# Altium footprint library DIP762W50P254L460H450Q4.PcbLib: 1 footprints
Each footprint in its own frame and in the unit in brackets; x right, y up, seen from the top. Pads: shape width x height; smd on the part's side, far side on the other; paste and mask are expansions set on the pad; w line width, h text height; cw(c..) or ccw(c..) is an arc to the next point about the centre after c.
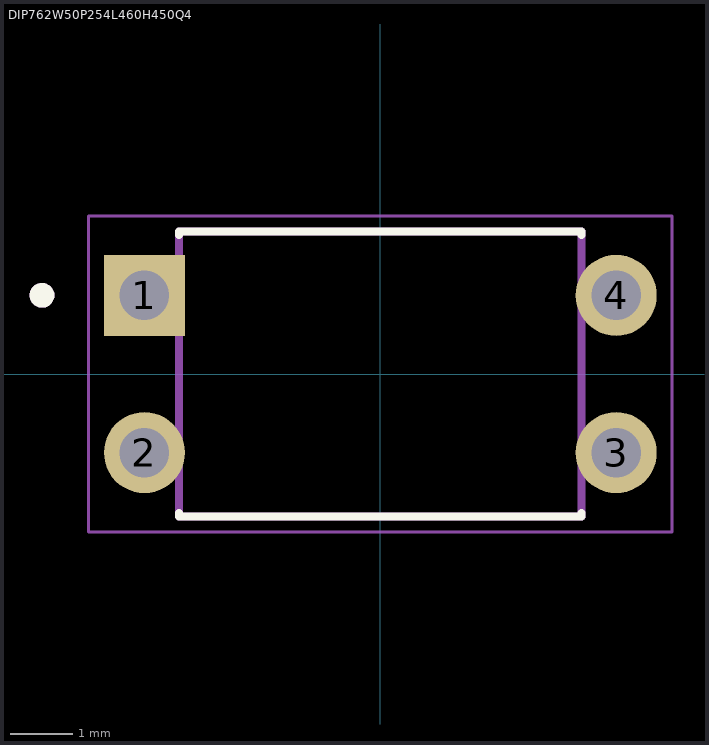
[diagram p0: the footprint, top view; thin cyan lines are the x and y axes]

## DIP762W50P254L460H450Q4 [mm]
height 4.5
pads (4):
  rect 1.308x1.308 / inner round 1.308 / far side rect 1.308x1.308 hole 0.8: 1(-3.81,1.27)
  round 1.308 hole 0.8: 2(-3.81,-1.27) 3(3.81,-1.27) 4(3.81,1.27)
Top Overlay:
  circle w0.2: c-5.464,1.27 r0.1
  lines w0.127: -3.25,-2.244 -3.25,-2.3 3.25,-2.3 3.25,-2.244 ; -3.25,2.244 -3.25,2.3 3.25,2.3 3.25,2.244
Mechanical 13:
  circle w0.2: c-5.464,1.27 r0.1
  lines w0.127: -3.25,-2.3 3.25,-2.3 3.25,2.3 -3.25,2.3 -3.25,-2.3
Mechanical 15:
  lines w0.05: -4.714,-2.55 -4.714,2.55 4.714,2.55 4.714,-2.55 -4.714,-2.55
3D body "step_temp.STEP": height 5, standoff -3.3, extent -3.985,-2.3 3.985,2.3